# EAGLE library part 690367190672 (library Board_to_Board_Connectors_rev15d)
WR-MM Female Connector with Latch and without Polarization, 6 Pins=>Code : Con_BTB_MM_Female_THT_St_690367190672 <http://katalog.we-online.de/media/thumbs2/eican/thb_Con_BTB_MM_Female_THT_St_69036719xx72_pf2.jpg> Details see: http://katalog.we-online.de/en/em/6903_6719_xx_72 Created 2014-06-04, Karrer Zheng 2014 (C) Würth Elektronik
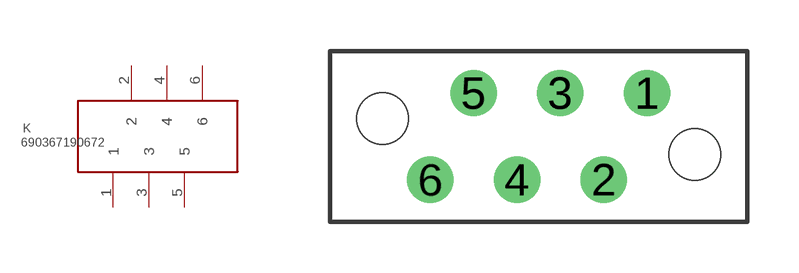
[diagram p354: symbol with the pads of 690367190672; footprint 690367190672]

Designator prefix K

## 690367190672  [690367190672]
1  1  pas
2  2  pas
3  3  pas
4  4  pas
5  5  pas
6  6  pas

## Footprint 690367190672 (pad centres in mm)
WR-MM Female Connector with Latch and without Polarization, 6 Pins
drill 0.85: 1 4.445,1.27; 2 3.175,-1.27; 3 1.905,1.27; 4 0.635,-1.27; 5 -0.635,1.27; 6 -1.905,-1.27
hole 1.5 at 5.845,-0.53
hole 1.5 at -3.305,0.53